# Altium integrated library Analog Devices Operational Amplifiers.IntLib: 2102 symbols (part 34 of 70)
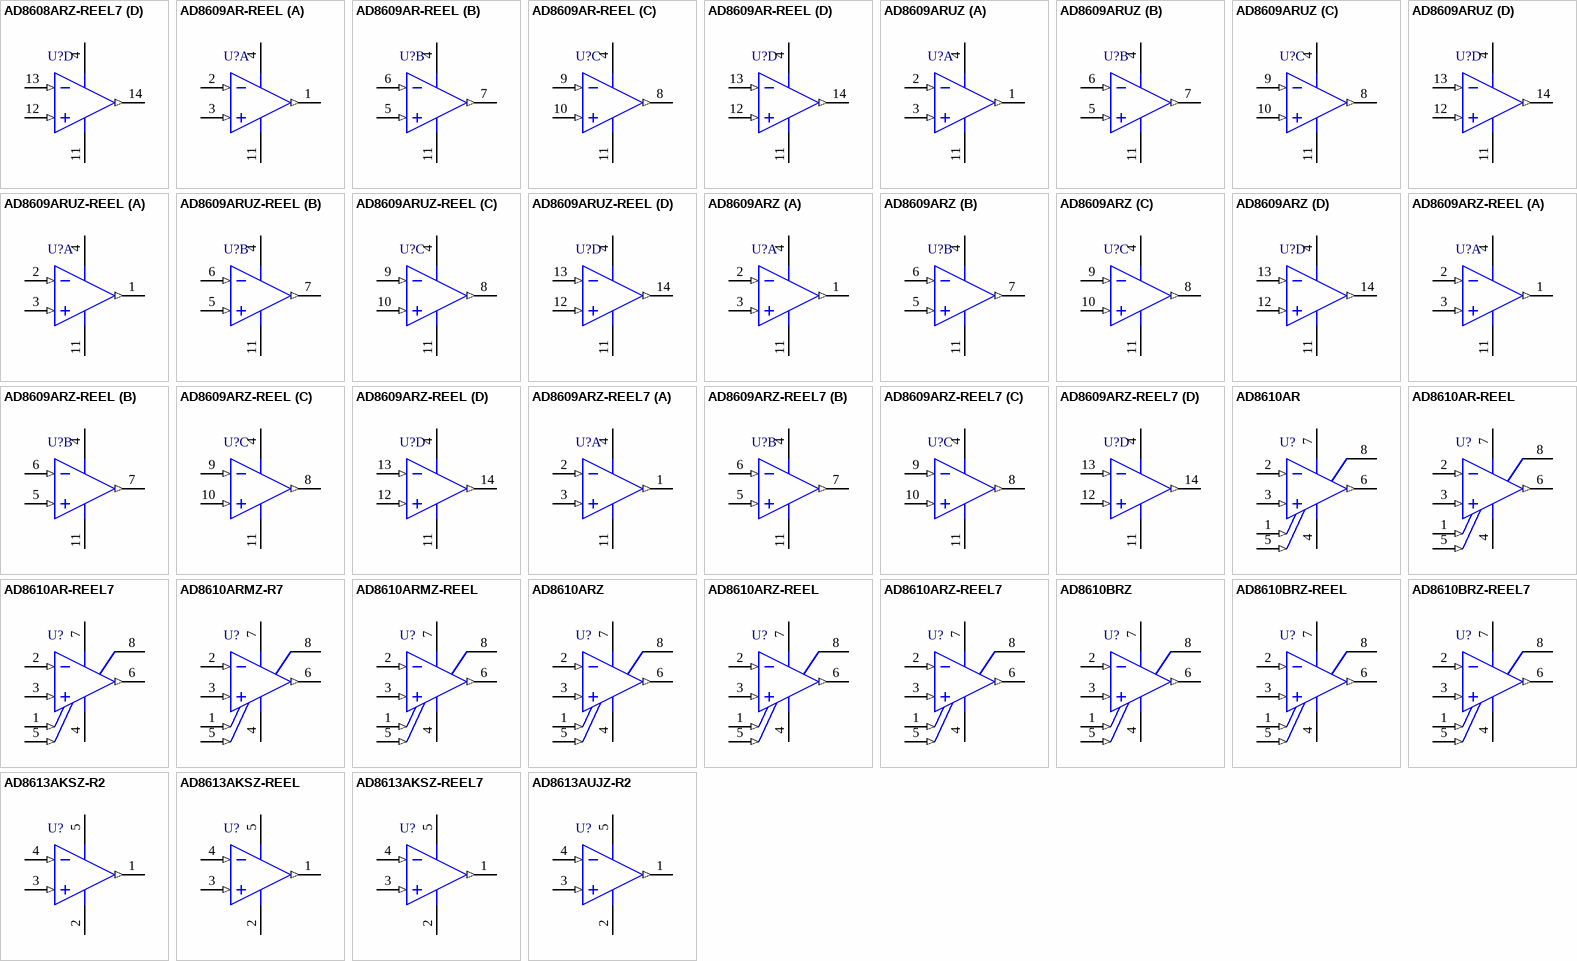
[diagram p147: symbols AD8608ARZ-REEL7 to AD8613AUJZ-R2]

## AD8609AR-REEL
designator U?
Quad Channel Single-Supply Operation Operational Amplifier, 400 KHz BW, 100 mV/us SR, Industrial, 14-pin SOIC (R-14), Reel; Generic Part Number: AD8609; Manufacturer: Analog Devices; PartNumber: AD8609AR-REEL; Amplifiers Per Package: 4; Input Bias Current: 200fA; Input Offset Voltage: 12uV; Iq/Amp: 40uA; Small Signal Bandwidth: 400KHz; V Span Max: 5V; V Span Min: 1.8V; DatasheetVersion: Rev. C; PackageVersion: 060606-A; PackageReference: R-14; PackageDescription: 14-Pin Standard Small Outline Package, Body 8.65 x 3.9 mm, Pitch 1.27 mm; Supplier 1: Digi-Key; Supplier Part Number 1: AD8609AR-REEL-ND; Supplier 2: Newark; Supplier Part Number 2: 88H0297; Slew Rate: 100mV/us; Mounting Technology: Surface Mount; Code_JEDEC: MS-012-AB; ComponentLink1Description: Manufacturer URL; ComponentLink1URL: http://www.analog.com/en/index.html; ComponentLink2Description: Datasheet; ComponentLink2URL: http://www.analog.com/static/imported-files/data_sheets/AD8603_8607_8609.pdf; ComponentLink3Description: Package Specification; ComponentLink3URL: http://www.analog.com/static/imported-files/packages/PKG_PDF/SOIC_Narrow%20(R)/R_14.pdf; ComponentLink4Description: Reference Circuit; ComponentLink4URL: http://www.analog.com/en/all-operational-amplifiers-op-amps/operational-amplifiers-op-amps/ad8609/products/product.html#product-recommendations
footprint ADI-R-14_N (SOIC, 14-Leads, Body 8.65x3.9mm, Pitch 1.27mm, IPC Medium Density)
footprint ADI-R-14_L (SOIC, 14-Leads, Body 8.65x3.9mm, Pitch 1.27mm, IPC High Density)
footprint ADI-R-14_M (SOIC, 14-Leads, Body 8.65x3.9mm, Pitch 1.27mm, IPC Low Density)
pins on every part: 4 +V (power), 11 -V (power)
part A pins: 1 OUT A (out), 2 -IN A (in), 3 +IN A (in)
part B pins: 5 +IN B (in), 6 -IN B (in), 7 OUT B (out)
part C pins: 8 OUT C (out), 9 -IN C (in), 10 +IN C (in)
part D pins: 12 +IN D (in), 13 -IN D (in), 14 OUT D (out)

## AD8609ARUZ
designator U?
Quad Channel Single-Supply Operation Operational Amplifier, 400 KHz BW, 100 mV/us SR, Industrial, 14-pin SOP (RU-14), Tube; Generic Part Number: AD8609; Manufacturer: Analog Devices; PartNumber: AD8609ARUZ; Amplifiers Per Package: 4; Input Bias Current: 200fA; Input Offset Voltage: 12uV; Iq/Amp: 40uA; Small Signal Bandwidth: 400KHz; V Span Max: 5V; V Span Min: 1.8V; DatasheetVersion: Rev. C; PackageReference: RU-14; PackageDescription: 14-Pin Thin Shrink Small Outline Package, Body 5 x 4.4 mm, Pitch 0.65 mm; Supplier 1: Digi-Key; Supplier Part Number 1: AD8609ARUZ-ND; Supplier 2: Newark; Supplier Part Number 2: 59K6934; Slew Rate: 100mV/us; Mounting Technology: Surface Mount; Code_JEDEC: MO-153AB-1; ComponentLink1Description: Manufacturer URL; ComponentLink1URL: http://www.analog.com/en/index.html; ComponentLink2Description: Datasheet; ComponentLink2URL: http://www.analog.com/static/imported-files/data_sheets/AD8603_8607_8609.pdf; ComponentLink3Description: Package Specification; ComponentLink3URL: http://www.analog.com/static/imported-files/packages/36057385283879153717235186773RU14.pdf; ComponentLink4Description: Reference Circuit; ComponentLink4URL: http://www.analog.com/en/all-operational-amplifiers-op-amps/operational-amplifiers-op-amps/ad8609/products/product.html#product-recommendations
footprint ADI-RU-14_N (SOP, 14-Leads, Body 5x4.4mm, Pitch 0.65mm, IPC Medium Density)
footprint ADI-RU-14_L (SOP, 14-Leads, Body 5x4.4mm, Pitch 0.65mm, IPC High Density)
footprint ADI-RU-14_M (SOP, 14-Leads, Body 5x4.4mm, Pitch 0.65mm, IPC Low Density)
pins on every part: 4 +V (power), 11 -V (power)
part A pins: 1 OUT A (out), 2 -IN A (in), 3 +IN A (in)
part B pins: 5 +IN B (in), 6 -IN B (in), 7 OUT B (out)
part C pins: 8 OUT C (out), 9 -IN C (in), 10 +IN C (in)
part D pins: 12 +IN D (in), 13 -IN D (in), 14 OUT D (out)

## AD8609ARUZ-REEL
designator U?
Quad Channel Single-Supply Operation Operational Amplifier, 400 KHz BW, 100 mV/us SR, Industrial, 14-pin SOP (RU-14), Reel; Generic Part Number: AD8609; Manufacturer: Analog Devices; PartNumber: AD8609ARUZ-REEL; Amplifiers Per Package: 4; Input Bias Current: 200fA; Input Offset Voltage: 12uV; Iq/Amp: 40uA; Small Signal Bandwidth: 400KHz; V Span Max: 5V; V Span Min: 1.8V; DatasheetVersion: Rev. C; PackageReference: RU-14; PackageDescription: 14-Pin Thin Shrink Small Outline Package, Body 5 x 4.4 mm, Pitch 0.65 mm; Supplier 1: Digi-Key; Supplier Part Number 1: AD8609ARUZ-REELTR-ND; Supplier 2: Digi-Key; Supplier Part Number 2: AD8609ARUZ-REELCT-ND; Supplier 3: Digi-Key; Supplier Part Number 3: AD8609ARUZ-REELDKR-ND; Supplier 4: Newark; Supplier Part Number 4: 59K6935; Slew Rate: 100mV/us; Mounting Technology: Surface Mount; Code_JEDEC: MO-153AB-1; ComponentLink1Description: Manufacturer URL; ComponentLink1URL: http://www.analog.com/en/index.html; ComponentLink2Description: Datasheet; ComponentLink2URL: http://www.analog.com/static/imported-files/data_sheets/AD8603_8607_8609.pdf; ComponentLink3Description: Package Specification; ComponentLink3URL: http://www.analog.com/static/imported-files/packages/36057385283879153717235186773RU14.pdf; ComponentLink4Description: Reference Circuit; ComponentLink4URL: http://www.analog.com/en/all-operational-amplifiers-op-amps/operational-amplifiers-op-amps/ad8609/products/product.html#product-recommendations
footprint ADI-RU-14_N (SOP, 14-Leads, Body 5x4.4mm, Pitch 0.65mm, IPC Medium Density)
footprint ADI-RU-14_L (SOP, 14-Leads, Body 5x4.4mm, Pitch 0.65mm, IPC High Density)
footprint ADI-RU-14_M (SOP, 14-Leads, Body 5x4.4mm, Pitch 0.65mm, IPC Low Density)
pins on every part: 4 +V (power), 11 -V (power)
part A pins: 1 OUT A (out), 2 -IN A (in), 3 +IN A (in)
part B pins: 5 +IN B (in), 6 -IN B (in), 7 OUT B (out)
part C pins: 8 OUT C (out), 9 -IN C (in), 10 +IN C (in)
part D pins: 12 +IN D (in), 13 -IN D (in), 14 OUT D (out)

## AD8609ARZ
designator U?
Quad Channel Single-Supply Operation Operational Amplifier, 400 KHz BW, 100 mV/us SR, Industrial, 14-pin SOIC (R-14), Tube; Generic Part Number: AD8609; Manufacturer: Analog Devices; PartNumber: AD8609ARZ; Amplifiers Per Package: 4; Input Bias Current: 200fA; Input Offset Voltage: 12uV; Iq/Amp: 40uA; Small Signal Bandwidth: 400KHz; V Span Max: 5V; V Span Min: 1.8V; DatasheetVersion: Rev. C; PackageVersion: 060606-A; PackageReference: R-14; PackageDescription: 14-Pin Standard Small Outline Package, Body 8.65 x 3.9 mm, Pitch 1.27 mm; Supplier 1: Digi-Key; Supplier Part Number 1: AD8609ARZ-ND; Supplier 2: Farnell; Supplier Part Number 2: 1581951; Supplier 3: Newark; Supplier Part Number 3: 19M0976; Slew Rate: 100mV/us; Mounting Technology: Surface Mount; Code_JEDEC: MS-012-AB; ComponentLink1Description: Manufacturer URL; ComponentLink1URL: http://www.analog.com/en/index.html; ComponentLink2Description: Datasheet; ComponentLink2URL: http://www.analog.com/static/imported-files/data_sheets/AD8603_8607_8609.pdf; ComponentLink3Description: Package Specification; ComponentLink3URL: http://www.analog.com/static/imported-files/packages/PKG_PDF/SOIC_Narrow%20(R)/R_14.pdf; ComponentLink4Description: Reference Circuit; ComponentLink4URL: http://www.analog.com/en/all-operational-amplifiers-op-amps/operational-amplifiers-op-amps/ad8609/products/product.html#product-recommendations
footprint ADI-R-14_N (SOIC, 14-Leads, Body 8.65x3.9mm, Pitch 1.27mm, IPC Medium Density)
footprint ADI-R-14_L (SOIC, 14-Leads, Body 8.65x3.9mm, Pitch 1.27mm, IPC High Density)
footprint ADI-R-14_M (SOIC, 14-Leads, Body 8.65x3.9mm, Pitch 1.27mm, IPC Low Density)
pins on every part: 4 +V (power), 11 -V (power)
part A pins: 1 OUT A (out), 2 -IN A (in), 3 +IN A (in)
part B pins: 5 +IN B (in), 6 -IN B (in), 7 OUT B (out)
part C pins: 8 OUT C (out), 9 -IN C (in), 10 +IN C (in)
part D pins: 12 +IN D (in), 13 -IN D (in), 14 OUT D (out)

## AD8609ARZ-REEL
designator U?
Quad Channel Single-Supply Operation Operational Amplifier, 400 KHz BW, 100 mV/us SR, Industrial, 14-pin SOIC (R-14), Reel; Generic Part Number: AD8609; Manufacturer: Analog Devices; PartNumber: AD8609ARZ-REEL; Amplifiers Per Package: 4; Input Bias Current: 200fA; Input Offset Voltage: 12uV; Iq/Amp: 40uA; Small Signal Bandwidth: 400KHz; V Span Max: 5V; V Span Min: 1.8V; DatasheetVersion: Rev. C; PackageVersion: 060606-A; PackageReference: R-14; PackageDescription: 14-Pin Standard Small Outline Package, Body 8.65 x 3.9 mm, Pitch 1.27 mm; Supplier 1: Digi-Key; Supplier Part Number 1: AD8609ARZ-REEL-ND; Slew Rate: 100mV/us; Mounting Technology: Surface Mount; Code_JEDEC: MS-012-AB; ComponentLink1Description: Manufacturer URL; ComponentLink1URL: http://www.analog.com/en/index.html; ComponentLink2Description: Datasheet; ComponentLink2URL: http://www.analog.com/static/imported-files/data_sheets/AD8603_8607_8609.pdf; ComponentLink3Description: Package Specification; ComponentLink3URL: http://www.analog.com/static/imported-files/packages/PKG_PDF/SOIC_Narrow%20(R)/R_14.pdf; ComponentLink4Description: Reference Circuit; ComponentLink4URL: http://www.analog.com/en/all-operational-amplifiers-op-amps/operational-amplifiers-op-amps/ad8609/products/product.html#product-recommendations
footprint ADI-R-14_N (SOIC, 14-Leads, Body 8.65x3.9mm, Pitch 1.27mm, IPC Medium Density)
footprint ADI-R-14_L (SOIC, 14-Leads, Body 8.65x3.9mm, Pitch 1.27mm, IPC High Density)
footprint ADI-R-14_M (SOIC, 14-Leads, Body 8.65x3.9mm, Pitch 1.27mm, IPC Low Density)
pins on every part: 4 +V (power), 11 -V (power)
part A pins: 1 OUT A (out), 2 -IN A (in), 3 +IN A (in)
part B pins: 5 +IN B (in), 6 -IN B (in), 7 OUT B (out)
part C pins: 8 OUT C (out), 9 -IN C (in), 10 +IN C (in)
part D pins: 12 +IN D (in), 13 -IN D (in), 14 OUT D (out)

## AD8609ARZ-REEL7
designator U?
Quad Channel Single-Supply Operation Operational Amplifier, 400 KHz BW, 100 mV/us SR, Industrial, 14-pin SOIC (R-14), Reel; Generic Part Number: AD8609; Manufacturer: Analog Devices; PartNumber: AD8609ARZ-REEL7; Amplifiers Per Package: 4; Input Bias Current: 200fA; Input Offset Voltage: 12uV; Iq/Amp: 40uA; Small Signal Bandwidth: 400KHz; V Span Max: 5V; V Span Min: 1.8V; DatasheetVersion: Rev. C; PackageVersion: 060606-A; PackageReference: R-14; PackageDescription: 14-Pin Standard Small Outline Package, Body 8.65 x 3.9 mm, Pitch 1.27 mm; Supplier 1: Digi-Key; Supplier Part Number 1: AD8609ARZ-REEL7-ND; Slew Rate: 100mV/us; Mounting Technology: Surface Mount; Code_JEDEC: MS-012-AB; ComponentLink1Description: Manufacturer URL; ComponentLink1URL: http://www.analog.com/en/index.html; ComponentLink2Description: Datasheet; ComponentLink2URL: http://www.analog.com/static/imported-files/data_sheets/AD8603_8607_8609.pdf; ComponentLink3Description: Package Specification; ComponentLink3URL: http://www.analog.com/static/imported-files/packages/PKG_PDF/SOIC_Narrow%20(R)/R_14.pdf; ComponentLink4Description: Reference Circuit; ComponentLink4URL: http://www.analog.com/en/all-operational-amplifiers-op-amps/operational-amplifiers-op-amps/ad8609/products/product.html#product-recommendations
footprint ADI-R-14_N (SOIC, 14-Leads, Body 8.65x3.9mm, Pitch 1.27mm, IPC Medium Density)
footprint ADI-R-14_L (SOIC, 14-Leads, Body 8.65x3.9mm, Pitch 1.27mm, IPC High Density)
footprint ADI-R-14_M (SOIC, 14-Leads, Body 8.65x3.9mm, Pitch 1.27mm, IPC Low Density)
pins on every part: 4 +V (power), 11 -V (power)
part A pins: 1 OUT A (out), 2 -IN A (in), 3 +IN A (in)
part B pins: 5 +IN B (in), 6 -IN B (in), 7 OUT B (out)
part C pins: 8 OUT C (out), 9 -IN C (in), 10 +IN C (in)
part D pins: 12 +IN D (in), 13 -IN D (in), 14 OUT D (out)

## AD8610AR
designator U?
Single Channel Low Offset Voltage Operational Amplifier, 25 MHz BW, 50 V/us SR, Industrial, 8-pin SOIC (R-8), Tube; Generic Part Number: AD8610; Manufacturer: Analog Devices; PartNumber: AD8610AR; Amplifiers Per Package: 1; Input Bias Current: 2pA; Input Offset Voltage: 85uV; Iq/Amp: 3.5mA; Slew Rate: 50V/us; Small Signal Bandwidth: 25MHz; V Span Max: 27V; V Span Min: 10V; DatasheetVersion: Rev. F; PackageVersion: 060506-A; PackageReference: R-8; PackageDescription: 8-Pin Standard Small Outline Package, Body 3.9 x 4.9 mm, Pitch 1.27 mm; Supplier 1: Digi-Key; Supplier Part Number 1: AD8610AR-ND; Mounting Technology: Surface Mount; Code_JEDEC: MS-012-AA; ComponentLink1Description: Manufacturer URL; ComponentLink1URL: http://www.analog.com/en/index.html; ComponentLink2Description: Datasheet; ComponentLink2URL: http://www.analog.com/static/imported-files/data_sheets/AD8610_8620.pdf; ComponentLink3Description: Package Specification; ComponentLink3URL: http://www.analog.com/static/imported-files/packages/PKG_PDF/SOIC_Narrow%20(R)/R_8.pdf; ComponentLink4Description: Reference Circuit; ComponentLink4URL: http://www.analog.com/en/all-operational-amplifiers-op-amps/operational-amplifiers-op-amps/ad8610/products/product.html#product-recommendations
footprint ADI-R-8_N (SOIC, 8-Leads, Body 4.9x3.9mm, Pitch 1.27mm, IPC Medium Density)
footprint ADI-R-8_L (SOIC, 8-Leads, Body 4.9x3.9mm, Pitch 1.27mm, IPC High Density)
footprint ADI-R-8_M (SOIC, 8-Leads, Body 4.9x3.9mm, Pitch 1.27mm, IPC Low Density)
pins: 1 NULL (in), 2 -IN (in), 3 +IN (in), 4 -V (power), 5 NULL (in), 6 OUT (out), 7 +V (power), 8 NC

## AD8610AR-REEL
designator U?
Single Channel Low Offset Voltage Operational Amplifier, 25 MHz BW, 50 V/us SR, Industrial, 8-pin SOIC (R-8), Reel; Generic Part Number: AD8610; Manufacturer: Analog Devices; PartNumber: AD8610AR-REEL; Amplifiers Per Package: 1; Input Bias Current: 2pA; Input Offset Voltage: 85uV; Iq/Amp: 3.5mA; Slew Rate: 50V/us; Small Signal Bandwidth: 25MHz; V Span Max: 27V; V Span Min: 10V; DatasheetVersion: Rev. F; PackageVersion: 060506-A; PackageReference: R-8; PackageDescription: 8-Pin Standard Small Outline Package, Body 3.9 x 4.9 mm, Pitch 1.27 mm; Supplier 1: Digi-Key; Supplier Part Number 1: AD8610AR-REEL-ND; Supplier 2: Newark; Supplier Part Number 2: 02H1997; Mounting Technology: Surface Mount; Code_JEDEC: MS-012-AA; ComponentLink1Description: Manufacturer URL; ComponentLink1URL: http://www.analog.com/en/index.html; ComponentLink2Description: Datasheet; ComponentLink2URL: http://www.analog.com/static/imported-files/data_sheets/AD8610_8620.pdf; ComponentLink3Description: Package Specification; ComponentLink3URL: http://www.analog.com/static/imported-files/packages/PKG_PDF/SOIC_Narrow%20(R)/R_8.pdf; ComponentLink4Description: Reference Circuit; ComponentLink4URL: http://www.analog.com/en/all-operational-amplifiers-op-amps/operational-amplifiers-op-amps/ad8610/products/product.html#product-recommendations
footprint ADI-R-8_N (SOIC, 8-Leads, Body 4.9x3.9mm, Pitch 1.27mm, IPC Medium Density)
footprint ADI-R-8_L (SOIC, 8-Leads, Body 4.9x3.9mm, Pitch 1.27mm, IPC High Density)
footprint ADI-R-8_M (SOIC, 8-Leads, Body 4.9x3.9mm, Pitch 1.27mm, IPC Low Density)
pins: 1 NULL (in), 2 -IN (in), 3 +IN (in), 4 -V (power), 5 NULL (in), 6 OUT (out), 7 +V (power), 8 NC

## AD8610AR-REEL7
designator U?
Single Channel Low Offset Voltage Operational Amplifier, 25 MHz BW, 50 V/us SR, Industrial, 8-pin SOIC (R-8), Reel; Generic Part Number: AD8610; Manufacturer: Analog Devices; PartNumber: AD8610AR-REEL7; Amplifiers Per Package: 1; Input Bias Current: 2pA; Input Offset Voltage: 85uV; Iq/Amp: 3.5mA; Slew Rate: 50V/us; Small Signal Bandwidth: 25MHz; V Span Max: 27V; V Span Min: 10V; DatasheetVersion: Rev. F; PackageVersion: 060506-A; PackageReference: R-8; PackageDescription: 8-Pin Standard Small Outline Package, Body 3.9 x 4.9 mm, Pitch 1.27 mm; Supplier 1: Digi-Key; Supplier Part Number 1: AD8610AR-REEL7-ND; Mounting Technology: Surface Mount; Code_JEDEC: MS-012-AA; ComponentLink1Description: Manufacturer URL; ComponentLink1URL: http://www.analog.com/en/index.html; ComponentLink2Description: Datasheet; ComponentLink2URL: http://www.analog.com/static/imported-files/data_sheets/AD8610_8620.pdf; ComponentLink3Description: Package Specification; ComponentLink3URL: http://www.analog.com/static/imported-files/packages/PKG_PDF/SOIC_Narrow%20(R)/R_8.pdf; ComponentLink4Description: Reference Circuit; ComponentLink4URL: http://www.analog.com/en/all-operational-amplifiers-op-amps/operational-amplifiers-op-amps/ad8610/products/product.html#product-recommendations
footprint ADI-R-8_N (SOIC, 8-Leads, Body 4.9x3.9mm, Pitch 1.27mm, IPC Medium Density)
footprint ADI-R-8_L (SOIC, 8-Leads, Body 4.9x3.9mm, Pitch 1.27mm, IPC High Density)
footprint ADI-R-8_M (SOIC, 8-Leads, Body 4.9x3.9mm, Pitch 1.27mm, IPC Low Density)
pins: 1 NULL (in), 2 -IN (in), 3 +IN (in), 4 -V (power), 5 NULL (in), 6 OUT (out), 7 +V (power), 8 NC

## AD8610ARMZ-R7
designator U?
Single Channel Low Offset Voltage Operational Amplifier, 25 MHz BW, 50 V/us SR, Industrial, 8-pin SOP (RM-8), Reel; Generic Part Number: AD8610; Manufacturer: Analog Devices; PartNumber: AD8610ARMZ-R7; Amplifiers Per Package: 1; Input Bias Current: 2pA; Input Offset Voltage: 85uV; Iq/Amp: 3.5mA; Slew Rate: 50V/us; Small Signal Bandwidth: 25MHz; V Span Max: 27V; V Span Min: 10V; DatasheetVersion: Rev. F; PackageReference: RM-8; PackageDescription: 8-Pin Mini Small Outline Package, Body 3 x 3 mm, Pitch 0.65 mm; Supplier 1: Digi-Key; Supplier Part Number 1: AD8610ARMZ-R7TR-ND; Supplier 2: Digi-Key; Supplier Part Number 2: AD8610ARMZ-R7CT-ND; Supplier 3: Digi-Key; Supplier Part Number 3: AD8610ARMZ-R7DKR-ND; Supplier 4: Newark; Supplier Part Number 4: 11R1054; Mounting Technology: Surface Mount; Code_JEDEC: MO-187-AA; ComponentLink1Description: Manufacturer URL; ComponentLink1URL: http://www.analog.com/en/index.html; ComponentLink2Description: Datasheet; ComponentLink2URL: http://www.analog.com/static/imported-files/data_sheets/AD8610_8620.pdf; ComponentLink3Description: Package Specification; ComponentLink3URL: http://www.analog.com/static/imported-files/packages/PKG_PDF/MSOP%28RM%29/RM_8.pdf; ComponentLink4Description: Reference Circuit; ComponentLink4URL: http://www.analog.com/en/all-operational-amplifiers-op-amps/operational-amplifiers-op-amps/ad8610/products/product.html#product-recommendations
footprint ADI-RM-8_N (SOP, 8-Leads, Body 3x3mm, Pitch 0.65mm, IPC Medium Density)
footprint ADI-RM-8_L (SOP, 8-Leads, Body 3x3mm, Pitch 0.65mm, IPC High Density)
footprint ADI-RM-8_M (SOP, 8-Leads, Body 3x3mm, Pitch 0.65mm, IPC Low Density)
pins: 1 NULL (in), 2 -IN (in), 3 +IN (in), 4 -V (power), 5 NULL (in), 6 OUT (out), 7 +V (power), 8 NC

## AD8610ARMZ-REEL
designator U?
Single Channel Low Offset Voltage Operational Amplifier, 25 MHz BW, 50 V/us SR, Industrial, 8-pin SOP (RM-8), Reel; Generic Part Number: AD8610; Manufacturer: Analog Devices; PartNumber: AD8610ARMZ-REEL; Amplifiers Per Package: 1; Input Bias Current: 2pA; Input Offset Voltage: 85uV; Iq/Amp: 3.5mA; Slew Rate: 50V/us; Small Signal Bandwidth: 25MHz; V Span Max: 27V; V Span Min: 10V; DatasheetVersion: Rev. F; PackageReference: RM-8; PackageDescription: 8-Pin Mini Small Outline Package, Body 3 x 3 mm, Pitch 0.65 mm; Supplier 1: Digi-Key; Supplier Part Number 1: AD8610ARMZ-REELTR-ND; Supplier 2: Digi-Key; Supplier Part Number 2: AD8610ARMZ-REELCT-ND; Supplier 3: Digi-Key; Supplier Part Number 3: AD8610ARMZ-REELDKR-ND; Supplier 4: Newark; Supplier Part Number 4: 59K6939; Mounting Technology: Surface Mount; Code_JEDEC: MO-187-AA; ComponentLink1Description: Manufacturer URL; ComponentLink1URL: http://www.analog.com/en/index.html; ComponentLink2Description: Datasheet; ComponentLink2URL: http://www.analog.com/static/imported-files/data_sheets/AD8610_8620.pdf; ComponentLink3Description: Package Specification; ComponentLink3URL: http://www.analog.com/static/imported-files/packages/PKG_PDF/MSOP%28RM%29/RM_8.pdf; ComponentLink4Description: Reference Circuit; ComponentLink4URL: http://www.analog.com/en/all-operational-amplifiers-op-amps/operational-amplifiers-op-amps/ad8610/products/product.html#product-recommendations
footprint ADI-RM-8_N (SOP, 8-Leads, Body 3x3mm, Pitch 0.65mm, IPC Medium Density)
footprint ADI-RM-8_L (SOP, 8-Leads, Body 3x3mm, Pitch 0.65mm, IPC High Density)
footprint ADI-RM-8_M (SOP, 8-Leads, Body 3x3mm, Pitch 0.65mm, IPC Low Density)
pins: 1 NULL (in), 2 -IN (in), 3 +IN (in), 4 -V (power), 5 NULL (in), 6 OUT (out), 7 +V (power), 8 NC

## AD8610ARZ
designator U?
Single Channel Low Offset Voltage Operational Amplifier, 25 MHz BW, 50 V/us SR, Industrial, 8-pin SOIC (R-8), Tube; Generic Part Number: AD8610; Manufacturer: Analog Devices; PartNumber: AD8610ARZ; Amplifiers Per Package: 1; Input Bias Current: 2pA; Input Offset Voltage: 85uV; Iq/Amp: 3.5mA; Slew Rate: 50V/us; Small Signal Bandwidth: 25MHz; V Span Max: 27V; V Span Min: 10V; DatasheetVersion: Rev. F; PackageVersion: 060506-A; PackageReference: R-8; PackageDescription: 8-Pin Standard Small Outline Package, Body 3.9 x 4.9 mm, Pitch 1.27 mm; Supplier 1: Digi-Key; Supplier Part Number 1: AD8610ARZ-ND; Supplier 2: Farnell; Supplier Part Number 2: 8621578; Supplier 3: Newark; Supplier Part Number 3: 59K6941; Mounting Technology: Surface Mount; Code_JEDEC: MS-012-AA; ComponentLink1Description: Manufacturer URL; ComponentLink1URL: http://www.analog.com/en/index.html; ComponentLink2Description: Datasheet; ComponentLink2URL: http://www.analog.com/static/imported-files/data_sheets/AD8610_8620.pdf; ComponentLink3Description: Package Specification; ComponentLink3URL: http://www.analog.com/static/imported-files/packages/PKG_PDF/SOIC_Narrow%20(R)/R_8.pdf; ComponentLink4Description: Reference Circuit; ComponentLink4URL: http://www.analog.com/en/all-operational-amplifiers-op-amps/operational-amplifiers-op-amps/ad8610/products/product.html#product-recommendations
footprint ADI-R-8_N (SOIC, 8-Leads, Body 4.9x3.9mm, Pitch 1.27mm, IPC Medium Density)
footprint ADI-R-8_L (SOIC, 8-Leads, Body 4.9x3.9mm, Pitch 1.27mm, IPC High Density)
footprint ADI-R-8_M (SOIC, 8-Leads, Body 4.9x3.9mm, Pitch 1.27mm, IPC Low Density)
pins: 1 NULL (in), 2 -IN (in), 3 +IN (in), 4 -V (power), 5 NULL (in), 6 OUT (out), 7 +V (power), 8 NC

## AD8610ARZ-REEL
designator U?
Single Channel Low Offset Voltage Operational Amplifier, 25 MHz BW, 50 V/us SR, Industrial, 8-pin SOIC (R-8), Reel; Generic Part Number: AD8610; Manufacturer: Analog Devices; PartNumber: AD8610ARZ-REEL; Amplifiers Per Package: 1; Input Bias Current: 2pA; Input Offset Voltage: 85uV; Iq/Amp: 3.5mA; Slew Rate: 50V/us; Small Signal Bandwidth: 25MHz; V Span Max: 27V; V Span Min: 10V; DatasheetVersion: Rev. F; PackageVersion: 060506-A; PackageReference: R-8; PackageDescription: 8-Pin Standard Small Outline Package, Body 3.9 x 4.9 mm, Pitch 1.27 mm; Supplier 1: Digi-Key; Supplier Part Number 1: AD8610ARZ-REEL-ND; Supplier 2: Newark; Supplier Part Number 2: 59K6942; Mounting Technology: Surface Mount; Code_JEDEC: MS-012-AA; ComponentLink1Description: Manufacturer URL; ComponentLink1URL: http://www.analog.com/en/index.html; ComponentLink2Description: Datasheet; ComponentLink2URL: http://www.analog.com/static/imported-files/data_sheets/AD8610_8620.pdf; ComponentLink3Description: Package Specification; ComponentLink3URL: http://www.analog.com/static/imported-files/packages/PKG_PDF/SOIC_Narrow%20(R)/R_8.pdf; ComponentLink4Description: Reference Circuit; ComponentLink4URL: http://www.analog.com/en/all-operational-amplifiers-op-amps/operational-amplifiers-op-amps/ad8610/products/product.html#product-recommendations
footprint ADI-R-8_N (SOIC, 8-Leads, Body 4.9x3.9mm, Pitch 1.27mm, IPC Medium Density)
footprint ADI-R-8_L (SOIC, 8-Leads, Body 4.9x3.9mm, Pitch 1.27mm, IPC High Density)
footprint ADI-R-8_M (SOIC, 8-Leads, Body 4.9x3.9mm, Pitch 1.27mm, IPC Low Density)
pins: 1 NULL (in), 2 -IN (in), 3 +IN (in), 4 -V (power), 5 NULL (in), 6 OUT (out), 7 +V (power), 8 NC

## AD8610ARZ-REEL7
designator U?
Single Channel Low Offset Voltage Operational Amplifier, 25 MHz BW, 50 V/us SR, Industrial, 8-pin SOIC (R-8), Reel; Generic Part Number: AD8610; Manufacturer: Analog Devices; PartNumber: AD8610ARZ-REEL7; Amplifiers Per Package: 1; Input Bias Current: 2pA; Input Offset Voltage: 85uV; Iq/Amp: 3.5mA; Slew Rate: 50V/us; Small Signal Bandwidth: 25MHz; V Span Max: 27V; V Span Min: 10V; DatasheetVersion: Rev. F; PackageVersion: 060506-A; PackageReference: R-8; PackageDescription: 8-Pin Standard Small Outline Package, Body 3.9 x 4.9 mm, Pitch 1.27 mm; Supplier 1: Digi-Key; Supplier Part Number 1: AD8610ARZ-REEL7-ND; Supplier 2: Newark; Supplier Part Number 2: 59K6943; Mounting Technology: Surface Mount; Code_JEDEC: MS-012-AA; ComponentLink1Description: Manufacturer URL; ComponentLink1URL: http://www.analog.com/en/index.html; ComponentLink2Description: Datasheet; ComponentLink2URL: http://www.analog.com/static/imported-files/data_sheets/AD8610_8620.pdf; ComponentLink3Description: Package Specification; ComponentLink3URL: http://www.analog.com/static/imported-files/packages/PKG_PDF/SOIC_Narrow%20(R)/R_8.pdf; ComponentLink4Description: Reference Circuit; ComponentLink4URL: http://www.analog.com/en/all-operational-amplifiers-op-amps/operational-amplifiers-op-amps/ad8610/products/product.html#product-recommendations
footprint ADI-R-8_N (SOIC, 8-Leads, Body 4.9x3.9mm, Pitch 1.27mm, IPC Medium Density)
footprint ADI-R-8_L (SOIC, 8-Leads, Body 4.9x3.9mm, Pitch 1.27mm, IPC High Density)
footprint ADI-R-8_M (SOIC, 8-Leads, Body 4.9x3.9mm, Pitch 1.27mm, IPC Low Density)
pins: 1 NULL (in), 2 -IN (in), 3 +IN (in), 4 -V (power), 5 NULL (in), 6 OUT (out), 7 +V (power), 8 NC

## AD8610BRZ
designator U?
Single Channel Low Offset Voltage Operational Amplifier, 25 MHz BW, 50 V/us SR, Industrial, 8-pin SOIC (R-8), Tube; Generic Part Number: AD8610; Manufacturer: Analog Devices; PartNumber: AD8610BRZ; Amplifiers Per Package: 1; Input Bias Current: 2pA; Input Offset Voltage: 45uV; Iq/Amp: 3.5mA; Slew Rate: 50V/us; Small Signal Bandwidth: 25MHz; V Span Max: 27V; V Span Min: 10V; DatasheetVersion: Rev. F; PackageVersion: 060506-A; PackageReference: R-8; PackageDescription: 8-Pin Standard Small Outline Package, Body 3.9 x 4.9 mm, Pitch 1.27 mm; Supplier 1: Digi-Key; Supplier Part Number 1: AD8610BRZ-ND; Supplier 2: Farnell; Supplier Part Number 2: 1571455; Supplier 3: Newark; Supplier Part Number 3: 59K6944; Mounting Technology: Surface Mount; Code_JEDEC: MS-012-AA; ComponentLink1Description: Manufacturer URL; ComponentLink1URL: http://www.analog.com/en/index.html; ComponentLink2Description: Datasheet; ComponentLink2URL: http://www.analog.com/static/imported-files/data_sheets/AD8610_8620.pdf; ComponentLink3Description: Package Specification; ComponentLink3URL: http://www.analog.com/static/imported-files/packages/PKG_PDF/SOIC_Narrow%20(R)/R_8.pdf; ComponentLink4Description: Reference Circuit; ComponentLink4URL: http://www.analog.com/en/all-operational-amplifiers-op-amps/operational-amplifiers-op-amps/ad8610/products/product.html#product-recommendations
footprint ADI-R-8_N (SOIC, 8-Leads, Body 4.9x3.9mm, Pitch 1.27mm, IPC Medium Density)
footprint ADI-R-8_L (SOIC, 8-Leads, Body 4.9x3.9mm, Pitch 1.27mm, IPC High Density)
footprint ADI-R-8_M (SOIC, 8-Leads, Body 4.9x3.9mm, Pitch 1.27mm, IPC Low Density)
pins: 1 NULL (in), 2 -IN (in), 3 +IN (in), 4 -V (power), 5 NULL (in), 6 OUT (out), 7 +V (power), 8 NC

## AD8610BRZ-REEL
designator U?
Single Channel Low Offset Voltage Operational Amplifier, 25 MHz BW, 50 V/us SR, Industrial, 8-pin SOIC (R-8), Reel; Generic Part Number: AD8610; Manufacturer: Analog Devices; PartNumber: AD8610BRZ-REEL; Amplifiers Per Package: 1; Input Bias Current: 2pA; Input Offset Voltage: 45uV; Iq/Amp: 3.5mA; Slew Rate: 50V/us; Small Signal Bandwidth: 25MHz; V Span Max: 27V; V Span Min: 10V; DatasheetVersion: Rev. F; PackageVersion: 060506-A; PackageReference: R-8; PackageDescription: 8-Pin Standard Small Outline Package, Body 3.9 x 4.9 mm, Pitch 1.27 mm; Supplier 1: Digi-Key; Supplier Part Number 1: AD8610BRZ-REEL-ND; Mounting Technology: Surface Mount; Code_JEDEC: MS-012-AA; ComponentLink1Description: Manufacturer URL; ComponentLink1URL: http://www.analog.com/en/index.html; ComponentLink2Description: Datasheet; ComponentLink2URL: http://www.analog.com/static/imported-files/data_sheets/AD8610_8620.pdf; ComponentLink3Description: Package Specification; ComponentLink3URL: http://www.analog.com/static/imported-files/packages/PKG_PDF/SOIC_Narrow%20(R)/R_8.pdf; ComponentLink4Description: Reference Circuit; ComponentLink4URL: http://www.analog.com/en/all-operational-amplifiers-op-amps/operational-amplifiers-op-amps/ad8610/products/product.html#product-recommendations
footprint ADI-R-8_N (SOIC, 8-Leads, Body 4.9x3.9mm, Pitch 1.27mm, IPC Medium Density)
footprint ADI-R-8_L (SOIC, 8-Leads, Body 4.9x3.9mm, Pitch 1.27mm, IPC High Density)
footprint ADI-R-8_M (SOIC, 8-Leads, Body 4.9x3.9mm, Pitch 1.27mm, IPC Low Density)
pins: 1 NULL (in), 2 -IN (in), 3 +IN (in), 4 -V (power), 5 NULL (in), 6 OUT (out), 7 +V (power), 8 NC

## AD8610BRZ-REEL7
designator U?
Single Channel Low Offset Voltage Operational Amplifier, 25 MHz BW, 50 V/us SR, Industrial, 8-pin SOIC (R-8), Reel; Generic Part Number: AD8610; Manufacturer: Analog Devices; PartNumber: AD8610BRZ-REEL7; Amplifiers Per Package: 1; Input Bias Current: 2pA; Input Offset Voltage: 45uV; Iq/Amp: 3.5mA; Slew Rate: 50V/us; Small Signal Bandwidth: 25MHz; V Span Max: 27V; V Span Min: 10V; DatasheetVersion: Rev. F; PackageVersion: 060506-A; PackageReference: R-8; PackageDescription: 8-Pin Standard Small Outline Package, Body 3.9 x 4.9 mm, Pitch 1.27 mm; Supplier 1: Digi-Key; Supplier Part Number 1: AD8610BRZ-REEL7-ND; Supplier 2: Newark; Supplier Part Number 2: 59K6946; Mounting Technology: Surface Mount; Code_JEDEC: MS-012-AA; ComponentLink1Description: Manufacturer URL; ComponentLink1URL: http://www.analog.com/en/index.html; ComponentLink2Description: Datasheet; ComponentLink2URL: http://www.analog.com/static/imported-files/data_sheets/AD8610_8620.pdf; ComponentLink3Description: Package Specification; ComponentLink3URL: http://www.analog.com/static/imported-files/packages/PKG_PDF/SOIC_Narrow%20(R)/R_8.pdf; ComponentLink4Description: Reference Circuit; ComponentLink4URL: http://www.analog.com/en/all-operational-amplifiers-op-amps/operational-amplifiers-op-amps/ad8610/products/product.html#product-recommendations
footprint ADI-R-8_N (SOIC, 8-Leads, Body 4.9x3.9mm, Pitch 1.27mm, IPC Medium Density)
footprint ADI-R-8_L (SOIC, 8-Leads, Body 4.9x3.9mm, Pitch 1.27mm, IPC High Density)
footprint ADI-R-8_M (SOIC, 8-Leads, Body 4.9x3.9mm, Pitch 1.27mm, IPC Low Density)
pins: 1 NULL (in), 2 -IN (in), 3 +IN (in), 4 -V (power), 5 NULL (in), 6 OUT (out), 7 +V (power), 8 NC

## AD8613AKSZ-R2
designator U?
Single Channel Single-Supply Operation Operational Amplifier, 400 KHz BW, 100 mV/us SR, Industrial, 5-pin SOT23 (KS-5), Reel; Generic Part Number: AD8613; Manufacturer: Analog Devices; PartNumber: AD8613AKSZ-R2; Amplifiers Per Package: 1; Input Bias Current: 200fA; Input Offset Voltage: 400uV; Iq/Amp: 38uA; Small Signal Bandwidth: 400KHz; V Span Max: 5V; V Span Min: 1.8V; DatasheetVersion: Rev. E; PackageVersion: 072809-A; PackageReference: KS-5; PackageDescription: 5-Pin Thin Shrink Small Outline Transistor Package, Body 2 x 1.25 mm, Pitch 0.65 mm; Supplier 1: Digi-Key; Supplier Part Number 1: AD8613AKSZ-R2TR-ND; Supplier 2: Digi-Key; Supplier Part Number 2: AD8613AKSZ-R2CT-ND; Supplier 3: Digi-Key; Supplier Part Number 3: AD8613AKSZ-R2DKR-ND; Supplier 4: Farnell; Supplier Part Number 4: 1837303; Supplier 5: Newark; Supplier Part Number 5: 12M9122; Slew Rate: 100mV/us; Mounting Technology: Surface Mount; Code_JEDEC: MO-203-AA; ComponentLink1Description: Manufacturer URL; ComponentLink1URL: http://www.analog.com/en/index.html; ComponentLink2Description: Datasheet; ComponentLink2URL: http://www.analog.com/static/imported-files/data_sheets/AD8613_8617_8619.pdf; ComponentLink3Description: Package Specification; ComponentLink3URL: http://www.analog.com/static/imported-files/packages/PKG_PDF/SC70(KS)/KS_5.pdf
footprint ADI-KS-5_N (SOT23, 5-Leads, Body 2x1.25mm, Pitch 0.65mm, IPC Medium Density)
footprint ADI-KS-5_L (SOT23, 5-Leads, Body 2x1.25mm, Pitch 0.65mm, IPC High Density)
footprint ADI-KS-5_M (SOT23, 5-Leads, Body 2x1.25mm, Pitch 0.65mm, IPC Low Density)
pins: 1 OUT (out), 2 -V (power), 3 +IN (in), 4 -IN (in), 5 +V (power)

## AD8613AKSZ-REEL
designator U?
Single Channel Single-Supply Operation Operational Amplifier, 400 KHz BW, 100 mV/us SR, Industrial, 5-pin SOT23 (KS-5), Reel; Generic Part Number: AD8613; Manufacturer: Analog Devices; PartNumber: AD8613AKSZ-REEL; Amplifiers Per Package: 1; Input Bias Current: 200fA; Input Offset Voltage: 400uV; Iq/Amp: 38uA; Small Signal Bandwidth: 400KHz; V Span Max: 5V; V Span Min: 1.8V; DatasheetVersion: Rev. E; PackageVersion: 072809-A; PackageReference: KS-5; PackageDescription: 5-Pin Thin Shrink Small Outline Transistor Package, Body 2 x 1.25 mm, Pitch 0.65 mm; Supplier 1: Digi-Key; Supplier Part Number 1: AD8613AKSZ-REEL-ND; Slew Rate: 100mV/us; Mounting Technology: Surface Mount; Code_JEDEC: MO-203-AA; ComponentLink1Description: Manufacturer URL; ComponentLink1URL: http://www.analog.com/en/index.html; ComponentLink2Description: Datasheet; ComponentLink2URL: http://www.analog.com/static/imported-files/data_sheets/AD8613_8617_8619.pdf; ComponentLink3Description: Package Specification; ComponentLink3URL: http://www.analog.com/static/imported-files/packages/PKG_PDF/SC70(KS)/KS_5.pdf
footprint ADI-KS-5_N (SOT23, 5-Leads, Body 2x1.25mm, Pitch 0.65mm, IPC Medium Density)
footprint ADI-KS-5_L (SOT23, 5-Leads, Body 2x1.25mm, Pitch 0.65mm, IPC High Density)
footprint ADI-KS-5_M (SOT23, 5-Leads, Body 2x1.25mm, Pitch 0.65mm, IPC Low Density)
pins: 1 OUT (out), 2 -V (power), 3 +IN (in), 4 -IN (in), 5 +V (power)

## AD8613AKSZ-REEL7
designator U?
Single Channel Single-Supply Operation Operational Amplifier, 400 KHz BW, 100 mV/us SR, Industrial, 5-pin SOT23 (KS-5), Reel; Generic Part Number: AD8613; Manufacturer: Analog Devices; PartNumber: AD8613AKSZ-REEL7; Amplifiers Per Package: 1; Input Bias Current: 200fA; Input Offset Voltage: 400uV; Iq/Amp: 38uA; Small Signal Bandwidth: 400KHz; V Span Max: 5V; V Span Min: 1.8V; DatasheetVersion: Rev. E; PackageVersion: 072809-A; PackageReference: KS-5; PackageDescription: 5-Pin Thin Shrink Small Outline Transistor Package, Body 2 x 1.25 mm, Pitch 0.65 mm; Supplier 1: Digi-Key; Supplier Part Number 1: AD8613AKSZ-REEL7-ND; Supplier 2: Newark; Supplier Part Number 2: 12M9121; Slew Rate: 100mV/us; Mounting Technology: Surface Mount; Code_JEDEC: MO-203-AA; ComponentLink1Description: Manufacturer URL; ComponentLink1URL: http://www.analog.com/en/index.html; ComponentLink2Description: Datasheet; ComponentLink2URL: http://www.analog.com/static/imported-files/data_sheets/AD8613_8617_8619.pdf; ComponentLink3Description: Package Specification; ComponentLink3URL: http://www.analog.com/static/imported-files/packages/PKG_PDF/SC70(KS)/KS_5.pdf
footprint ADI-KS-5_N (SOT23, 5-Leads, Body 2x1.25mm, Pitch 0.65mm, IPC Medium Density)
footprint ADI-KS-5_L (SOT23, 5-Leads, Body 2x1.25mm, Pitch 0.65mm, IPC High Density)
footprint ADI-KS-5_M (SOT23, 5-Leads, Body 2x1.25mm, Pitch 0.65mm, IPC Low Density)
pins: 1 OUT (out), 2 -V (power), 3 +IN (in), 4 -IN (in), 5 +V (power)

## AD8613AUJZ-R2
designator U?
Single Channel Single-Supply Operation Operational Amplifier, 400 KHz BW, 100 mV/us SR, Industrial, 5-pin SOT23 (UJ-5), Reel; Generic Part Number: AD8613; Manufacturer: Analog Devices; PartNumber: AD8613AUJZ-R2; Amplifiers Per Package: 1; Input Bias Current: 200fA; Input Offset Voltage: 400uV; Iq/Amp: 38uA; Small Signal Bandwidth: 400KHz; V Span Max: 5V; V Span Min: 1.8V; DatasheetVersion: Rev. E; PackageVersion: 100708-A; PackageReference: UJ-5; PackageDescription: 5-Pin Thin Small Outline Transistor Package, Body 2.9 x 1.6 mm, Pitch 0.95 mm; Supplier 1: Digi-Key; Supplier Part Number 1: AD8613AUJZ-R2TR-ND; Supplier 2: Digi-Key; Supplier Part Number 2: AD8613AUJZ-R2CT-ND; Supplier 3: Digi-Key; Supplier Part Number 3: AD8613AUJZ-R2DKR-ND; Supplier 4: Farnell; Supplier Part Number 4: 1333262RL; Supplier 5: Farnell; Supplier Part Number 5: 1333262; Supplier 6: Newark; Supplier Part Number 6: 12M9125; Slew Rate: 100mV/us; Mounting Technology: Surface Mount; Code_JEDEC: MO-193-AB; ComponentLink1Description: Manufacturer URL; ComponentLink1URL: http://www.analog.com/en/index.html; ComponentLink2Description: Datasheet; ComponentLink2URL: http://www.analog.com/static/imported-files/data_sheets/AD8613_8617_8619.pdf; ComponentLink3Description: Package Specification; ComponentLink3URL: http:/www.analog.com/static/imported-files/packages/PKG_PDF/TSOT(UJ)/UJ_5.pdf
footprint ADI-UJ-5_N (SOT23, 5-Leads, Body 2.9x1.6mm, Pitch 0.95mm, IPC Medium Density)
footprint ADI-UJ-5_L (SOT23, 5-Leads, Body 2.9x1.6mm, Pitch 0.95mm, IPC High Density)
footprint ADI-UJ-5_M (SOT23, 5-Leads, Body 2.9x1.6mm, Pitch 0.95mm, IPC Low Density)
pins: 1 OUT (out), 2 -V (power), 3 +IN (in), 4 -IN (in), 5 +V (power)

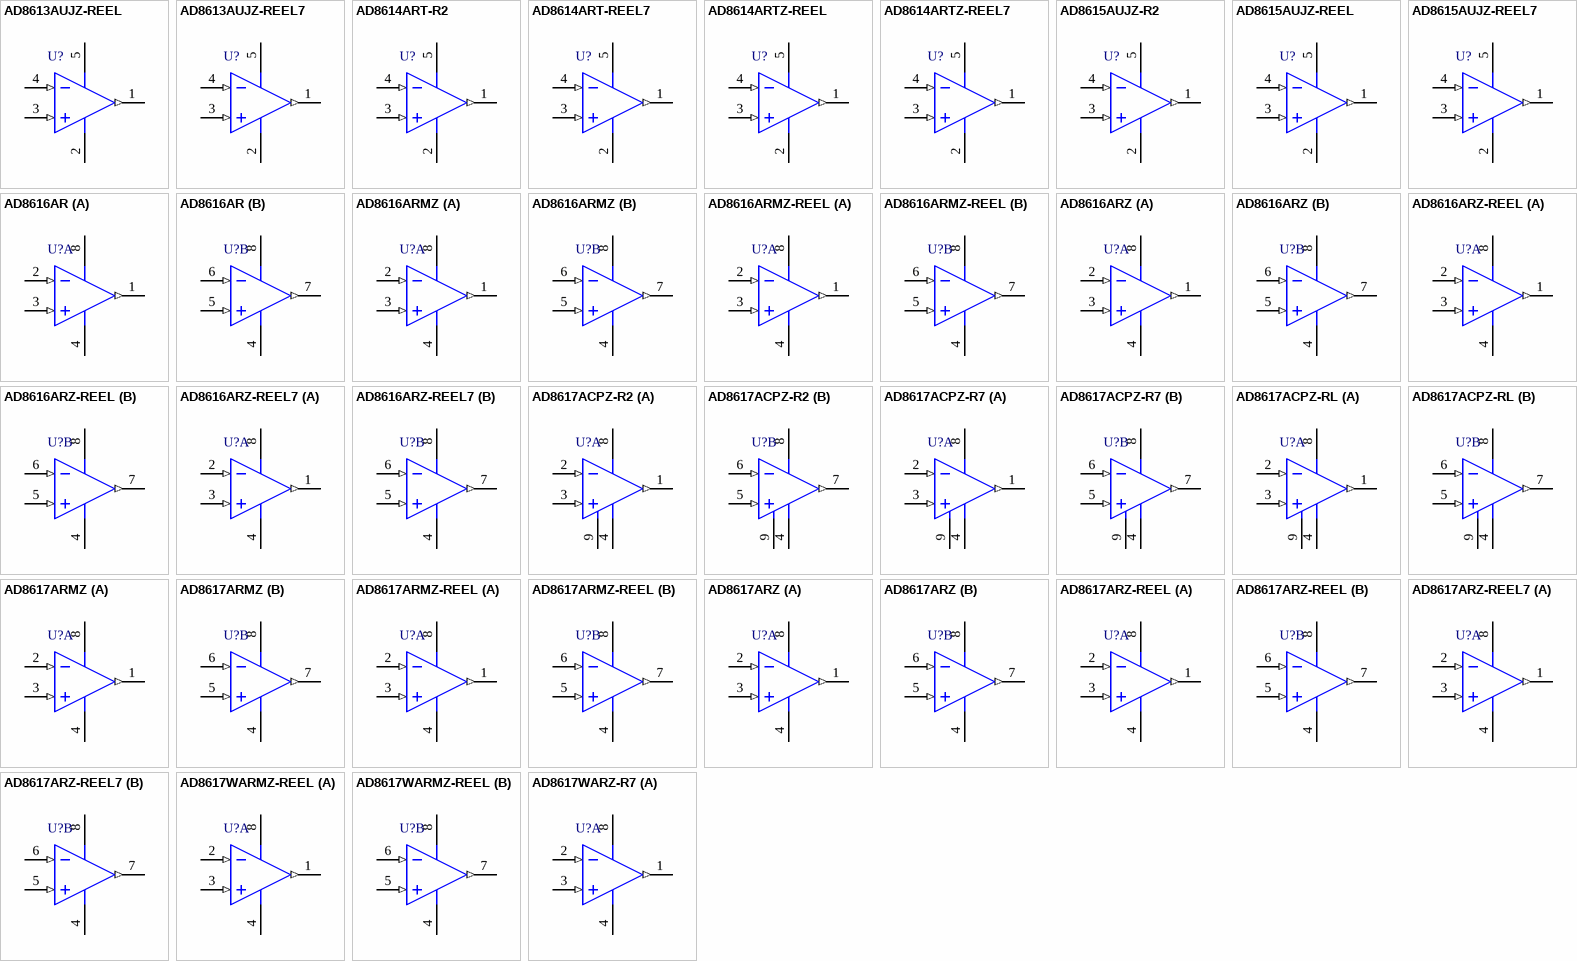
[diagram p52: symbols AD8613AUJZ-REEL to AD8617WARZ-R7]

## AD8613AUJZ-REEL
designator U?
Single Channel Single-Supply Operation Operational Amplifier, 400 KHz BW, 100 mV/us SR, Industrial, 5-pin SOT23 (UJ-5), Reel; Generic Part Number: AD8613; Manufacturer: Analog Devices; PartNumber: AD8613AUJZ-REEL; Amplifiers Per Package: 1; Input Bias Current: 200fA; Input Offset Voltage: 400uV; Iq/Amp: 38uA; Small Signal Bandwidth: 400KHz; V Span Max: 5V; V Span Min: 1.8V; DatasheetVersion: Rev. E; PackageVersion: 100708-A; PackageReference: UJ-5; PackageDescription: 5-Pin Thin Small Outline Transistor Package, Body 2.9 x 1.6 mm, Pitch 0.95 mm; Supplier 1: Digi-Key; Supplier Part Number 1: AD8613AUJZ-REEL-ND; Supplier 2: Newark; Supplier Part Number 2: 12M9123; Slew Rate: 100mV/us; Mounting Technology: Surface Mount; Code_JEDEC: MO-193-AB; ComponentLink1Description: Manufacturer URL; ComponentLink1URL: http://www.analog.com/en/index.html; ComponentLink2Description: Datasheet; ComponentLink2URL: http://www.analog.com/static/imported-files/data_sheets/AD8613_8617_8619.pdf; ComponentLink3Description: Package Specification; ComponentLink3URL: http:/www.analog.com/static/imported-files/packages/PKG_PDF/TSOT(UJ)/UJ_5.pdf
footprint ADI-UJ-5_N (SOT23, 5-Leads, Body 2.9x1.6mm, Pitch 0.95mm, IPC Medium Density)
footprint ADI-UJ-5_L (SOT23, 5-Leads, Body 2.9x1.6mm, Pitch 0.95mm, IPC High Density)
footprint ADI-UJ-5_M (SOT23, 5-Leads, Body 2.9x1.6mm, Pitch 0.95mm, IPC Low Density)
pins: 1 OUT (out), 2 -V (power), 3 +IN (in), 4 -IN (in), 5 +V (power)

## AD8613AUJZ-REEL7
designator U?
Single Channel Single-Supply Operation Operational Amplifier, 400 KHz BW, 100 mV/us SR, Industrial, 5-pin SOT23 (UJ-5), Reel; Generic Part Number: AD8613; Manufacturer: Analog Devices; PartNumber: AD8613AUJZ-REEL7; Amplifiers Per Package: 1; Input Bias Current: 200fA; Input Offset Voltage: 400uV; Iq/Amp: 38uA; Small Signal Bandwidth: 400KHz; V Span Max: 5V; V Span Min: 1.8V; DatasheetVersion: Rev. E; PackageVersion: 100708-A; PackageReference: UJ-5; PackageDescription: 5-Pin Thin Small Outline Transistor Package, Body 2.9 x 1.6 mm, Pitch 0.95 mm; Supplier 1: Digi-Key; Supplier Part Number 1: AD8613AUJZ-REEL7-ND; Slew Rate: 100mV/us; Mounting Technology: Surface Mount; Code_JEDEC: MO-193-AB; ComponentLink1Description: Manufacturer URL; ComponentLink1URL: http://www.analog.com/en/index.html; ComponentLink2Description: Datasheet; ComponentLink2URL: http://www.analog.com/static/imported-files/data_sheets/AD8613_8617_8619.pdf; ComponentLink3Description: Package Specification; ComponentLink3URL: http:/www.analog.com/static/imported-files/packages/PKG_PDF/TSOT(UJ)/UJ_5.pdf
footprint ADI-UJ-5_N (SOT23, 5-Leads, Body 2.9x1.6mm, Pitch 0.95mm, IPC Medium Density)
footprint ADI-UJ-5_L (SOT23, 5-Leads, Body 2.9x1.6mm, Pitch 0.95mm, IPC High Density)
footprint ADI-UJ-5_M (SOT23, 5-Leads, Body 2.9x1.6mm, Pitch 0.95mm, IPC Low Density)
pins: 1 OUT (out), 2 -V (power), 3 +IN (in), 4 -IN (in), 5 +V (power)

## AD8614ART-R2
designator U?
Single Channel Single-Supply Operation Operational Amplifier, 5.5 MHz BW, 7.5 V/us SR, Industrial, 5-pin SOT23 (RJ-5), Reel; Generic Part Number: AD8614; Manufacturer: Analog Devices; PartNumber: AD8614ART-R2; Amplifiers Per Package: 1; Input Bias Current: 80nA; Input Offset Voltage: 1mV; Iq/Amp: 0.8mA; Small Signal Bandwidth: 5.5MHz; V Span Max: 18V; V Span Min: 5V; DatasheetVersion: Rev. B; PackageVersion: 121608-A; PackageReference: RJ-5; PackageDescription: 5-Pin Small Outline Transistor Package, Body 2.9 x 1.6 mm, Pitch 0.95 mm; Supplier 1: Digi-Key; Supplier Part Number 1: AD8614ART-R2-ND; Supplier 2: Newark; Supplier Part Number 2: 02H2008; Slew Rate: 7.5V/us; Mounting Technology: Surface Mount; Code_JEDEC: MO-178-AA; ComponentLink1Description: Manufacturer URL; ComponentLink1URL: http://www.analog.com/en/index.html; ComponentLink2Description: Datasheet; ComponentLink2URL: http://www.analog.com/static/imported-files/data_sheets/AD8614_8644.pdf; ComponentLink3Description: Package Specification; ComponentLink3URL: http://www.analog.com/static/imported-files/packages/PKG_PDF/SOT-23(RJ)/RJ_5.pdf
footprint ADI-RJ-5_N (SOT-23, 5-Leads, Body 2.9x1.6mm, Pitch 0.95mm, IPC Medium Density)
footprint ADI-RJ-5_L (SOT-23, 5-Leads, Body 2.9x1.6mm, Pitch 0.95mm, IPC High Density)
footprint ADI-RJ-5_M (SOT-23, 5-Leads, Body 2.9x1.6mm, Pitch 0.95mm, IPC Low Density)
pins: 1 OUT A (out), 2 -V (power), 3 +IN (in), 4 -IN (in), 5 +V (power)

## AD8614ART-REEL7
designator U?
Single Channel Single-Supply Operation Operational Amplifier, 5.5 MHz BW, 7.5 V/us SR, Industrial, 5-pin SOT23 (RJ-5), Reel; Generic Part Number: AD8614; Manufacturer: Analog Devices; PartNumber: AD8614ART-REEL7; Amplifiers Per Package: 1; Input Bias Current: 80nA; Input Offset Voltage: 1mV; Iq/Amp: 0.8mA; Small Signal Bandwidth: 5.5MHz; V Span Max: 18V; V Span Min: 5V; DatasheetVersion: Rev. B; PackageVersion: 121608-A; PackageReference: RJ-5; PackageDescription: 5-Pin Small Outline Transistor Package, Body 2.9 x 1.6 mm, Pitch 0.95 mm; Supplier 1: Digi-Key; Supplier Part Number 1: AD8614ART-REEL7TR-ND; Supplier 2: Digi-Key; Supplier Part Number 2: AD8614ART-REEL7CT-ND; Supplier 3: Newark; Supplier Part Number 3: 18C3842; Slew Rate: 7.5V/us; Mounting Technology: Surface Mount; Code_JEDEC: MO-178-AA; ComponentLink1Description: Manufacturer URL; ComponentLink1URL: http://www.analog.com/en/index.html; ComponentLink2Description: Datasheet; ComponentLink2URL: http://www.analog.com/static/imported-files/data_sheets/AD8614_8644.pdf; ComponentLink3Description: Package Specification; ComponentLink3URL: http://www.analog.com/static/imported-files/packages/PKG_PDF/SOT-23(RJ)/RJ_5.pdf
footprint ADI-RJ-5_N (SOT-23, 5-Leads, Body 2.9x1.6mm, Pitch 0.95mm, IPC Medium Density)
footprint ADI-RJ-5_L (SOT-23, 5-Leads, Body 2.9x1.6mm, Pitch 0.95mm, IPC High Density)
footprint ADI-RJ-5_M (SOT-23, 5-Leads, Body 2.9x1.6mm, Pitch 0.95mm, IPC Low Density)
pins: 1 OUT A (out), 2 -V (power), 3 +IN (in), 4 -IN (in), 5 +V (power)

## AD8614ARTZ-REEL
designator U?
Single Channel Single-Supply Operation Operational Amplifier, 5.5 MHz BW, 7.5 V/us SR, Industrial, 5-pin SOT23 (RJ-5), Reel; Generic Part Number: AD8614; Manufacturer: Analog Devices; PartNumber: AD8614ARTZ-REEL; Amplifiers Per Package: 1; Input Bias Current: 80nA; Input Offset Voltage: 1mV; Iq/Amp: 0.8mA; Small Signal Bandwidth: 5.5MHz; V Span Max: 18V; V Span Min: 5V; DatasheetVersion: Rev. B; PackageVersion: 121608-A; PackageReference: RJ-5; PackageDescription: 5-Pin Small Outline Transistor Package, Body 2.9 x 1.6 mm, Pitch 0.95 mm; Supplier 1: Digi-Key; Supplier Part Number 1: AD8614ARTZ-REEL-ND; Supplier 2: Newark; Supplier Part Number 2: 59K6952; Slew Rate: 7.5V/us; Mounting Technology: Surface Mount; Code_JEDEC: MO-178-AA; ComponentLink1Description: Manufacturer URL; ComponentLink1URL: http://www.analog.com/en/index.html; ComponentLink2Description: Datasheet; ComponentLink2URL: http://www.analog.com/static/imported-files/data_sheets/AD8614_8644.pdf; ComponentLink3Description: Package Specification; ComponentLink3URL: http://www.analog.com/static/imported-files/packages/PKG_PDF/SOT-23(RJ)/RJ_5.pdf
footprint ADI-RJ-5_N (SOT-23, 5-Leads, Body 2.9x1.6mm, Pitch 0.95mm, IPC Medium Density)
footprint ADI-RJ-5_L (SOT-23, 5-Leads, Body 2.9x1.6mm, Pitch 0.95mm, IPC High Density)
footprint ADI-RJ-5_M (SOT-23, 5-Leads, Body 2.9x1.6mm, Pitch 0.95mm, IPC Low Density)
pins: 1 OUT A (out), 2 -V (power), 3 +IN (in), 4 -IN (in), 5 +V (power)

## AD8614ARTZ-REEL7
designator U?
Single Channel Single-Supply Operation Operational Amplifier, 5.5 MHz BW, 7.5 V/us SR, Industrial, 5-pin SOT23 (RJ-5), Reel; Generic Part Number: AD8614; Manufacturer: Analog Devices; PartNumber: AD8614ARTZ-REEL7; Amplifiers Per Package: 1; Input Bias Current: 80nA; Input Offset Voltage: 1mV; Iq/Amp: 0.8mA; Small Signal Bandwidth: 5.5MHz; V Span Max: 18V; V Span Min: 5V; DatasheetVersion: Rev. B; PackageVersion: 121608-A; PackageReference: RJ-5; PackageDescription: 5-Pin Small Outline Transistor Package, Body 2.9 x 1.6 mm, Pitch 0.95 mm; Supplier 1: Digi-Key; Supplier Part Number 1: AD8614ARTZ-REEL7TR-ND; Supplier 2: Digi-Key; Supplier Part Number 2: AD8614ARTZ-REEL7CT-ND; Supplier 3: Digi-Key; Supplier Part Number 3: AD8614ARTZ-REEL7DKR-ND; Supplier 4: Farnell; Supplier Part Number 4: 2074882RL; Supplier 5: Farnell; Supplier Part Number 5: 2074882; Supplier 6: Newark; Supplier Part Number 6: 67W2757; Supplier 7: Newark; Supplier Part Number 7: 88H0303; Slew Rate: 7.5V/us; Mounting Technology: Surface Mount; Code_JEDEC: MO-178-AA; ComponentLink1Description: Manufacturer URL; ComponentLink1URL: http://www.analog.com/en/index.html; ComponentLink2Description: Datasheet; ComponentLink2URL: http://www.analog.com/static/imported-files/data_sheets/AD8614_8644.pdf; ComponentLink3Description: Package Specification; ComponentLink3URL: http://www.analog.com/static/imported-files/packages/PKG_PDF/SOT-23(RJ)/RJ_5.pdf
footprint ADI-RJ-5_N (SOT-23, 5-Leads, Body 2.9x1.6mm, Pitch 0.95mm, IPC Medium Density)
footprint ADI-RJ-5_L (SOT-23, 5-Leads, Body 2.9x1.6mm, Pitch 0.95mm, IPC High Density)
footprint ADI-RJ-5_M (SOT-23, 5-Leads, Body 2.9x1.6mm, Pitch 0.95mm, IPC Low Density)
pins: 1 OUT A (out), 2 -V (power), 3 +IN (in), 4 -IN (in), 5 +V (power)

## AD8615AUJZ-R2
designator U?
Single Channel Wide Bandwidth Operational Amplifier, 23 MHz BW, 12 V/us SR, Industrial, 5-pin SOT23 (UJ-5), Reel; Generic Part Number: AD8615; Manufacturer: Analog Devices; PartNumber: AD8615AUJZ-R2; Amplifiers Per Package: 1; Input Bias Current: 200fA; Input Offset Voltage: 80uV; Iq/Amp: 1.7mA; Slew Rate: 12V/us; Small Signal Bandwidth: 23MHz; V Span Max: 6V; V Span Min: 2.7V; DatasheetVersion: Rev. E; PackageVersion: 100708-A; PackageReference: UJ-5; PackageDescription: 5-Pin Thin Small Outline Transistor Package, Body 2.9 x 1.6 mm, Pitch 0.95 mm; Supplier 1: Digi-Key; Supplier Part Number 1: AD8615AUJZ-R2TR-ND; Supplier 2: Digi-Key; Supplier Part Number 2: AD8615AUJZ-R2CT-ND; Supplier 3: Digi-Key; Supplier Part Number 3: AD8615AUJZ-R2DKR-ND; Supplier 4: Newark; Supplier Part Number 4: 19M8931; Mounting Technology: Surface Mount; Code_JEDEC: MO-193-AB; ComponentLink1Description: Manufacturer URL; ComponentLink1URL: http://www.analog.com/en/index.html; ComponentLink2Description: Datasheet; ComponentLink2URL: http://www.analog.com/static/imported-files/data_sheets/AD8615_8616_8618.pdf; ComponentLink3Description: Package Specification; ComponentLink3URL: http:/www.analog.com/static/imported-files/packages/PKG_PDF/TSOT(UJ)/UJ_5.pdf; ComponentLink4Description: Reference Circuit; ComponentLink4URL: http://www.analog.com/en/all-operational-amplifiers-op-amps/operational-amplifiers-op-amps/ad8615/products/product.html#product-recommendations
footprint ADI-UJ-5_N (SOT23, 5-Leads, Body 2.9x1.6mm, Pitch 0.95mm, IPC Medium Density)
footprint ADI-UJ-5_L (SOT23, 5-Leads, Body 2.9x1.6mm, Pitch 0.95mm, IPC High Density)
footprint ADI-UJ-5_M (SOT23, 5-Leads, Body 2.9x1.6mm, Pitch 0.95mm, IPC Low Density)
pins: 1 OUT (out), 2 -V (power), 3 +IN (in), 4 -IN (in), 5 +V (power)

## AD8615AUJZ-REEL
designator U?
Single Channel Wide Bandwidth Operational Amplifier, 23 MHz BW, 12 V/us SR, Industrial, 5-pin SOT23 (UJ-5), Reel; Generic Part Number: AD8615; Manufacturer: Analog Devices; PartNumber: AD8615AUJZ-REEL; Amplifiers Per Package: 1; Input Bias Current: 200fA; Input Offset Voltage: 80uV; Iq/Amp: 1.7mA; Slew Rate: 12V/us; Small Signal Bandwidth: 23MHz; V Span Max: 6V; V Span Min: 2.7V; DatasheetVersion: Rev. E; PackageVersion: 100708-A; PackageReference: UJ-5; PackageDescription: 5-Pin Thin Small Outline Transistor Package, Body 2.9 x 1.6 mm, Pitch 0.95 mm; Supplier 1: Digi-Key; Supplier Part Number 1: AD8615AUJZ-REEL-ND; Mounting Technology: Surface Mount; Code_JEDEC: MO-193-AB; ComponentLink1Description: Manufacturer URL; ComponentLink1URL: http://www.analog.com/en/index.html; ComponentLink2Description: Datasheet; ComponentLink2URL: http://www.analog.com/static/imported-files/data_sheets/AD8615_8616_8618.pdf; ComponentLink3Description: Package Specification; ComponentLink3URL: http:/www.analog.com/static/imported-files/packages/PKG_PDF/TSOT(UJ)/UJ_5.pdf; ComponentLink4Description: Reference Circuit; ComponentLink4URL: http://www.analog.com/en/all-operational-amplifiers-op-amps/operational-amplifiers-op-amps/ad8615/products/product.html#product-recommendations
footprint ADI-UJ-5_N (SOT23, 5-Leads, Body 2.9x1.6mm, Pitch 0.95mm, IPC Medium Density)
footprint ADI-UJ-5_L (SOT23, 5-Leads, Body 2.9x1.6mm, Pitch 0.95mm, IPC High Density)
footprint ADI-UJ-5_M (SOT23, 5-Leads, Body 2.9x1.6mm, Pitch 0.95mm, IPC Low Density)
pins: 1 OUT (out), 2 -V (power), 3 +IN (in), 4 -IN (in), 5 +V (power)